# Altium schematic symbol library ERJ6EN_125mW.SchLib: 2 symbols
Pins are listed as number, name and electrical type; pins without a type are passive.

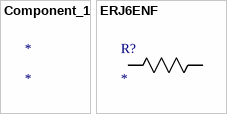
[diagram p0: symbols Component_1 to ERJ6ENF]

## Component_1
designator *

## ERJ6ENF
designator R?
Imported; Manufacturer_Part_Number: ERJ6ENF1000V; Vendor: Panasonic; Built_By: EMA_UL_Team; C: Copyright (C) 2016 Accelerated Designs. All rights reserved; RefDes: RefDes; Type: DEV; Value: Value
footprint 0805
pins: 1, 2